# Altium schematic symbol library XTAL_4P.Schlib: 1 symbol
Pins are listed as number, name and electrical type; pins without a type are passive.

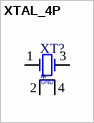
[diagram p0: symbol XTAL_4P]

## XTAL_4P
designator XT?
Crystal pin 2 and 4 GND
pins: 1 OSC1, 2, 3 OSC2, 4
text: GND